# Altium schematic symbol library INTERFACE.SchLib: 13 symbols
Pins are listed as number, name and electrical type; pins without a type are passive.

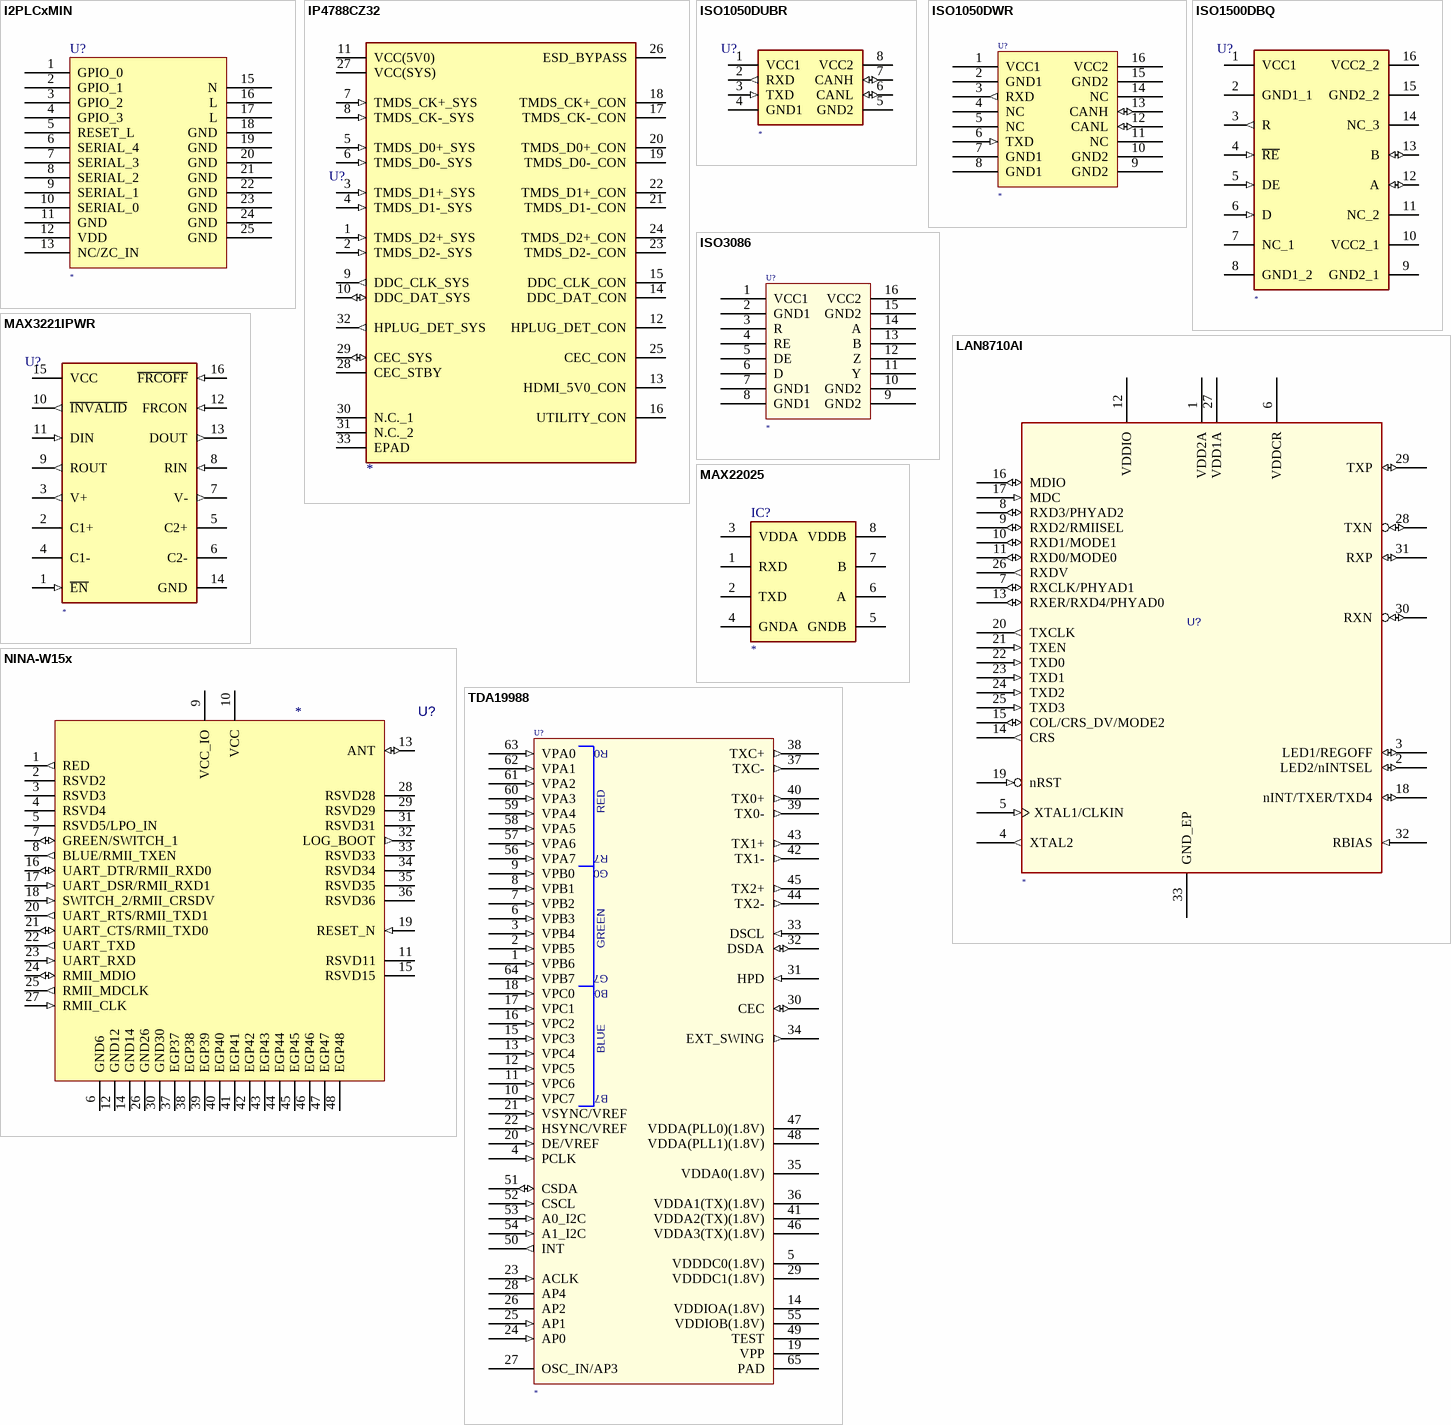
[diagram p0: symbols I2PLCxMIN to TDA19988]

## I2PLCxMIN
designator U?
Manufacturer Part Number: *
pins: 1 GPIO_0 "QCA7000/QCA7005 GPIO_0", 2 GPIO_1 "QCA7000/QCA7005 GPIO_1", 3 GPIO_2 "QCA7000/QCA7005 GPIO_2", 4 GPIO_3 "QCA7000/QCA7005 GPIO_3", 5 RESET_L "Reset(low access)", 6 SERIAL_4 "QCA7000/QCA7005 Serial 4", 7 SERIAL_3 "QCA7000/QCA7005 Serial 3", 8 SERIAL_2 "QCA7000/QCA7005 Serial 2", 9 SERIAL_1 "QCA7000/QCA7005 Serial 1", 10 SERIAL_0 "QCA7000/QCA7005 Serial 0", 11 GND "Ground connection", 12 VDD "Supply Voltage for the module", 13 NC/ZC_IN "NC for HA, ZC_IN for automotive", 15 N "Powerline communication", 16 L "Powerline communication", 17 L "Powerline communication", 18 GND "Ground connection", 19 GND "Ground connection", 20 GND "Ground connection", 21 GND "Ground connection", 22 GND "Ground connection", 23 GND "Ground connection", 24 GND "Ground connection", 25 GND "Ground connection"

## IP4788CZ32
designator U?
HDMI ESD PROTECTION; Manufacturer Part Number: *
pins: 1 TMDS_D2+_SYS (in), 2 TMDS_D2-_SYS (in), 3 TMDS_D1+_SYS (in), 4 TMDS_D1-_SYS (in), 5 TMDS_D0+_SYS (in), 6 TMDS_D0-_SYS (in), 7 TMDS_CK+_SYS (in), 8 TMDS_CK-_SYS (in), 9 DDC_CLK_SYS (out), 10 DDC_DAT_SYS (io), 11 VCC(5V0) (power), 12 HPLUG_DET_CON, 13 HDMI_5V0_CON, 14 DDC_DAT_CON, 15 DDC_CLK_CON, 16 UTILITY_CON, 17 TMDS_CK-_CON, 18 TMDS_CK+_CON, 19 TMDS_D0-_CON, 20 TMDS_D0+_CON, 21 TMDS_D1-_CON, 22 TMDS_D1+_CON, 23 TMDS_D2-_CON, 24 TMDS_D2+_CON, 25 CEC_CON, 26 ESD_BYPASS, 27 VCC(SYS) (power), 28 CEC_STBY (power), 29 CEC_SYS (io), 30 N.C._1, 31 N.C._2, 32 HPLUG_DET_SYS (out), 33 EPAD (power)

## ISO1050DUBR
designator U?
CANBUS Transreceiver IC; Manufacturer Part Number: *
pins: 1 VCC1 (power), 2 RXD (out), 3 TXD (in), 4 GND1 (power), 5 GND2 (power), 6 CANL (io), 7 CANH (io), 8 VCC2 (power)

## ISO1050DWR
designator U?
CANBUS Transreceiver IC; Manufacturer Part Number: *
pins: 1 VCC1 (power), 2 GND1 (power), 3 RXD (out), 4 NC, 5 NC, 6 TXD (in), 7 GND1 (power), 8 GND1 (power), 9 GND2 (power), 10 GND2 (power), 11 NC, 12 CANL (io), 13 CANH (io), 14 NC, 15 GND2 (power), 16 VCC2 (power)

## ISO1500DBQ
designator U?
RS-485 Interface IC; Manufacturer Part Number: *
pins: 1 VCC1 (power), 2 GND1_1 (power), 3 R (out), 4 ~{RE} (in), 5 DE (in), 6 D (in), 7 NC_1, 8 GND1_2 (power), 9 GND2_1 (power), 10 VCC2_1 (power), 11 NC_2, 12 A (io), 13 B (io), 14 NC_3, 15 GND2_2 (power), 16 VCC2_2 (power)

## ISO3086
designator U?
DG ISO 2.5KV RS422/RS485 16SOIC; Manufacturer Part Number: *
pins: 1 VCC1, 2 GND1, 3 R, 4 RE, 5 DE, 6 D, 7 GND1, 8 GND1, 9 GND2, 10 GND2, 11 Y, 12 Z, 13 B, 14 A, 15 GND2, 16 VCC2

## LAN8710AI
designator U?
Ethernet Interface; Manufacturer Part Number: *
pins: 1 VDD2A (power), 2 LED2/nINTSEL (io), 3 LED1/REGOFF (io), 4 XTAL2 (out), 5 XTAL1/CLKIN (in), 6 VDDCR (power), 7 RXCLK/PHYAD1 (io), 8 RXD3/PHYAD2 (io), 9 RXD2/RMIISEL (io), 10 RXD1/MODE1 (io), 11 RXD0/MODE0 (io), 12 VDDIO (power), 13 RXER/RXD4/PHYAD0 (io), 14 CRS (out), 15 COL/CRS_DV/MODE2 (io), 16 MDIO (io), 17 MDC (in), 18 nINT/TXER/TXD4 (io), 19 nRST (in), 20 TXCLK (out), 21 TXEN (in), 22 TXD0 (in), 23 TXD1 (in), 24 TXD2 (in), 25 TXD3 (in), 26 RXDV (out), 27 VDD1A (power), 28 TXN (io), 29 TXP (io), 30 RXN (io), 31 RXP (io), 32 RBIAS (in), 33 GND_EP (power)

## MAX3221IPWR
designator U?
RS-232 Interface IC; Manufacturer Part Number: *
pins: 1 ~{EN} (in), 2 C1+, 3 V+ (out), 4 C1-, 5 C2+, 6 C2-, 7 V- (out), 8 RIN (in), 9 ROUT (out), 10 ~{INVALID} (out), 11 DIN (in), 12 FRCON (in), 13 DOUT (out), 14 GND (power), 15 VCC (power), 16 ~{FRCOFF} (in)

## MAX22025
designator IC?
RS-485 Interface IC; Manufacturer Part Number: *
pins: 1 RXD, 2 TXD, 3 VDDA, 4 GNDA, 5 GNDB, 6 A, 7 B, 8 VDDB

## NINA-W15x
designator U?
u-blox NINA-W152 WiFi, Bluetooth Module; Manufacturer Part Number: *
pins: 1 RED (out), 2 RSVD2, 3 RSVD3, 4 RSVD4, 5 RSVD5/LPO_IN, 6 GND6 (power), 7 GREEN/SWITCH_1 (io), 8 BLUE/RMII_TXEN (out), 9 VCC_IO (power), 10 VCC (power), 11 RSVD11, 12 GND12 (power), 13 ANT (io), 14 GND14 (power), 15 RSVD15, 16 UART_DTR/RMII_RXD0 (io), 17 UART_DSR/RMII_RXD1 (in), 18 SWITCH_2/RMII_CRSDV (in), 19 RESET_N (in), 20 UART_RTS/RMII_TXD1 (out), 21 UART_CTS/RMII_TXD0 (io), 22 UART_TXD (out), 23 UART_RXD (in), 24 RMII_MDIO (io), 25 RMII_MDCLK (out), 26 GND26 (power), 27 RMII_CLK (in), 28 RSVD28, 29 RSVD29, 30 GND30 (power), 31 RSVD31, 32 LOG_BOOT (out), 33 RSVD33, 34 RSVD34, 35 RSVD35, 36 RSVD36, 37 EGP37 (power), 38 EGP38 (power), 39 EGP39 (power), 40 EGP40 (power), 41 EGP41 (power), 42 EGP42 (power), 43 EGP43 (power), 44 EGP44 (power), 45 EGP45 (power), 46 EGP46 (power), 47 EGP47 (power), 48 EGP48 (power)

## TDA19988
designator U?
Manufacturer Part Number: *
pins: 1 VPB6 (in), 2 VPB5 (in), 3 VPB4 (in), 4 PCLK (in), 5 VDDDC0(1.8V) (power), 6 VPB3 (in), 7 VPB2 (in), 8 VPB1 (in), 9 VPB0 (in), 10 VPC7 (in), 11 VPC6 (in), 12 VPC5 (in), 13 VPC4 (in), 14 VDDIOA(1.8V) (power), 15 VPC3 (in), 16 VPC2 (in), 17 VPC1 (in), 18 VPC0 (in), 19 VPP (power), 20 DE/VREF (in), 21 VSYNC/VREF (in), 22 HSYNC/VREF (in), 23 ACLK (in), 24 AP0 (in), 25 AP1 (in), 26 AP2, 27 OSC_IN/AP3, 28 AP4, 29 VDDDC1(1.8V) (power), 30 CEC (io), 31 HPD (in), 32 DSDA (io), 33 DSCL (in), 34 EXT_SWING (out), 35 VDDA0(1.8V) (power), 36 VDDA1(TX)(1.8V) (power), 37 TXC- (out), 38 TXC+ (out), 39 TX0- (out), 40 TX0+ (out), 41 VDDA2(TX)(1.8V) (power), 42 TX1- (out), 43 TX1+ (out), 44 TX2- (out), 45 TX2+ (out), 46 VDDA3(TX)(1.8V) (power), 47 VDDA(PLL0)(1.8V) (power), 48 VDDA(PLL1)(1.8V) (power), 49 TEST (power), 50 INT (out), 51 CSDA (io), 52 CSCL (in), 53 A0_I2C (in), 54 A1_I2C (in), 55 VDDIOB(1.8V) (power), 56 VPA7 (in), 57 VPA6 (in), 58 VPA5 (in), 59 VPA4 (in), 60 VPA3 (in), 61 VPA2 (in), 62 VPA1 (in), 63 VPA0 (in), 64 VPB7 (in), 65 PAD (power)
text: R0; RED; R7; G0; GREEN; G7; B0; BLUE; B7

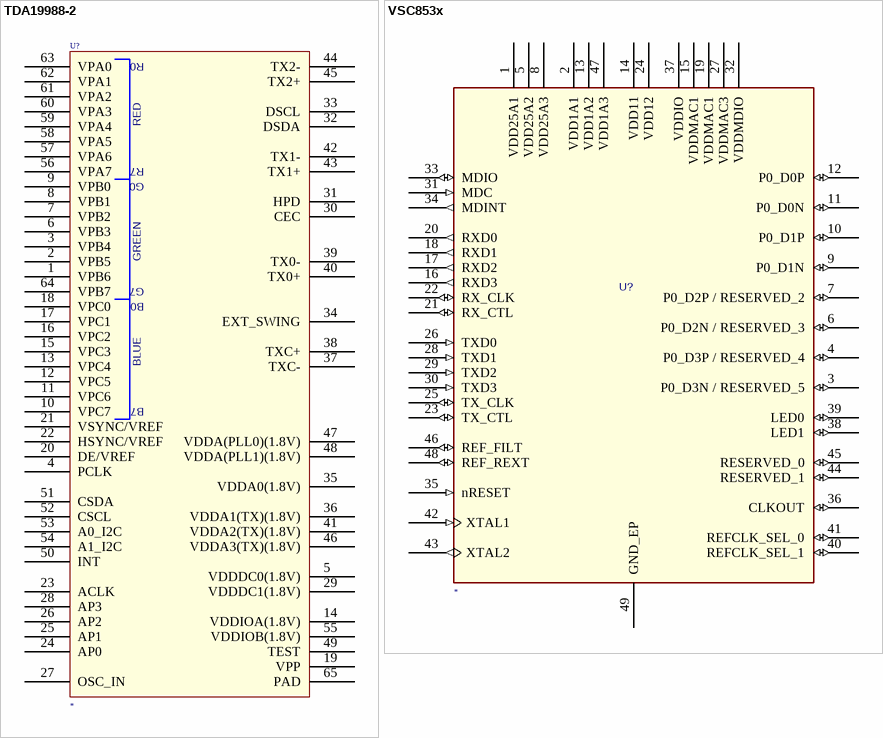
[diagram p1: symbols TDA19988-2 to VSC853x]

## TDA19988-2
designator U?
Manufacturer Part Number: *
pins: 1 VPB6, 2 VPB5, 3 VPB4, 4 PCLK, 5 VDDDC0(1.8V), 6 VPB3, 7 VPB2, 8 VPB1, 9 VPB0, 10 VPC7, 11 VPC6, 12 VPC5, 13 VPC4, 14 VDDIOA(1.8V), 15 VPC3, 16 VPC2, 17 VPC1, 18 VPC0, 19 VPP, 20 DE/VREF, 21 VSYNC/VREF, 22 HSYNC/VREF, 23 ACLK, 24 AP0, 25 AP1, 26 AP2, 27 OSC_IN, 28 AP3, 29 VDDDC1(1.8V), 30 CEC, 31 HPD, 32 DSDA, 33 DSCL, 34 EXT_SWING, 35 VDDA0(1.8V), 36 VDDA1(TX)(1.8V), 37 TXC-, 38 TXC+, 39 TX0-, 40 TX0+, 41 VDDA2(TX)(1.8V), 42 TX1-, 43 TX1+, 44 TX2-, 45 TX2+, 46 VDDA3(TX)(1.8V), 47 VDDA(PLL0)(1.8V), 48 VDDA(PLL1)(1.8V), 49 TEST, 50 INT, 51 CSDA, 52 CSCL, 53 A0_I2C, 54 A1_I2C, 55 VDDIOB(1.8V), 56 VPA7, 57 VPA6, 58 VPA5, 59 VPA4, 60 VPA3, 61 VPA2, 62 VPA1, 63 VPA0, 64 VPB7, 65 PAD
text: R0; RED; R7; G0; GREEN; G7; B0; BLUE; B7

## VSC853x
designator U?
Ethernet Interface; Manufacturer Part Number: *
pins: 1 VDD25A1 (power), 2 VDD1A1 (power), 3 P0_D3N / RESERVED_5 (io), 4 P0_D3P / RESERVED_4 (io), 5 VDD25A2 (power), 6 P0_D2N / RESERVED_3 (io), 7 P0_D2P / RESERVED_2 (io), 8 VDD25A3 (power), 9 P0_D1N (io), 10 P0_D1P (io), 11 P0_D0N (io), 12 P0_D0P (io), 13 VDD1A2 (power), 14 VDD11 (power), 15 VDDMAC1 (power), 16 RXD3 (out), 17 RXD2 (out), 18 RXD1 (out), 19 VDDMAC1 (power), 20 RXD0 (out), 21 RX_CTL (io), 22 RX_CLK (io), 23 TX_CTL (io), 24 VDD12 (power), 25 TX_CLK (io), 26 TXD0 (in), 27 VDDMAC3 (power), 28 TXD1 (in), 29 TXD2 (in), 30 TXD3 (in), 31 MDC (in), 32 VDDMDIO (power), 33 MDIO (io), 34 MDINT (out), 35 nRESET (in), 36 CLKOUT (io), 37 VDDIO (power), 38 LED1 (io), 39 LED0 (io), 40 REFCLK_SEL_1 (io), 41 REFCLK_SEL_0 (io), 42 XTAL1 (in), 43 XTAL2 (out), 44 RESERVED_1 (io), 45 RESERVED_0 (io), 46 REF_FILT (io), 47 VDD1A3 (power), 48 REF_REXT (io), 49 GND_EP (power)